# EAGLE library part LMC662CMX/NOPB (library ruark2)
CMOS Amplifier 2 Circuit Push-Pull, Rail-to-Rail 8-SOIC
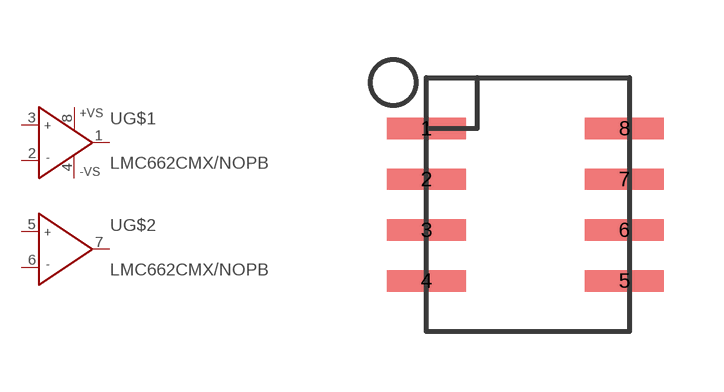
[diagram p125: symbol with the pads of SOIC8; footprint SOIC8]

Designator prefix U; gates G$1=OP+- G$2=OP

## LMC662CMX/NOPB (PARTNO: 296-36891-1-ND)  [SOIC8]
1  G$1:OUT  out
2  G$1:IN-  in
3  G$1:IN+  in
4  G$1:-VS  in
5  G$2:IN+  in
6  G$2:IN-  in
7  G$2:OUT  out
8  G$1:+VS  in

## Footprint SOIC8 (pad centres in mm)
smd 1.981 x 0.533: 1 -2.477,1.905; 2 -2.477,0.635; 3 -2.477,-0.635; 4 -2.477,-1.905; 5 2.477,-1.905; 6 2.477,-0.635; 7 2.477,0.635; 8 2.477,1.905